# Altium footprint library Transformer_PADs.PcbLib: 1 footprints
Each footprint in its own frame and in the unit in brackets; x right, y up, seen from the top. Pads: shape width x height; smd on the part's side, far side on the other; paste and mask are expansions set on the pad; w line width, h text height; cw(c..) or ccw(c..) is an arc to the next point about the centre after c.
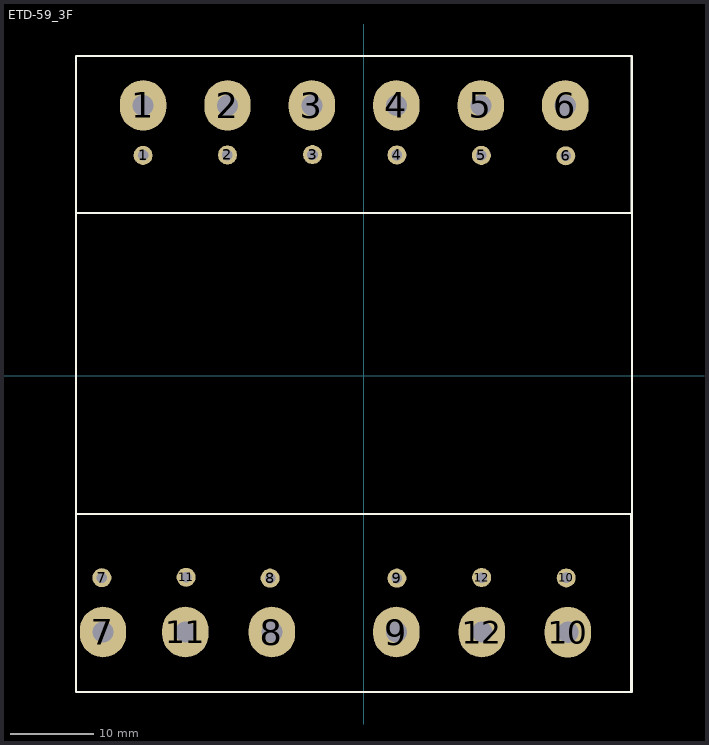
[diagram p0: the footprint, top view; thin cyan lines are the x and y axes]

## ETD-59_3F [mil]
pads (24):
  round 90 hole 50: 1(-1045.29,1043.19) 2(-645.29,1045.19) 3(-242.29,1047.19) 4(157.71,1045.19) 5(557.71,1043.19) 6(957.71,1041.19) 7(-1240.29,-957.81) 8(-443.29,-959.81) 9(157.71,-959.81) 10(959.71,-958.81) 11(-841.29,-955.81) 12(558.71,-956.81)
  oval 220x240 hole 100: 1(-1045,1280) 2(-645,1280) 3(-245,1280) 4(155,1280) 5(555,1280) 6(955,1280) 7(-1235,-1215) 8(-435,-1215) 9(155,-1215) 10(967.29,-1216.19) 11(-845,-1215) 12(560,-1215)
Top Overlay:
  lines w10: -1363.29,1515 1269.71,1515 1269.71,770.19 -1363.29,770.19 -1363.29,1515 ; -1363.29,1515 1271.71,1515 1271.71,-1500 -1363.29,-1500 -1363.29,1515 ; -1363.29,-1256.81 -1362.29,-1256.81 -1362.29,-1247.81 -1363.29,-1247.81 -1363.29,-1256.81 ; -1362.79,-1500 1267.71,-1500 1267.71,-655.81 -1362.79,-655.81 -1362.79,-1500
3D body "ETD59.STEP": height 2023.61, standoff -72.71, extent -1356.93,-1260 1276.93,1342.33